# Altium integrated library C322C103K5R5TA.IntLib: 1 symbol
Pins are listed as number, name and electrical type; pins without a type are passive.

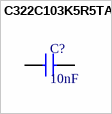
[diagram p0: symbol C322C103K5R5TA]

## C322C103K5R5TA
designator C?, comment 10nF
10000 pF ±10% 50V Ceramic Capacitor X7R Radial; ID: C322C103K5R5TA; ComponentLink1Description: Compra; ComponentLink1URL: https://www.digikey.com/en/products/detail/kemet/C322C103K5R5TA/818102
footprint CAPRR508W54L508T381H660
pins: 1 POS, 2 NEG